# EAGLE library part 662016231822 (library Wurth_Elektronik_Electromechanic_Wire_to_Board_Connectors_rev15c)
WR-MPC3 3.00mm Male Dual Row SMT Vertical Header with SMT Fitting Nail, 16 Pins=>Code : Con_WTB_MPC3_2_PCB_SMT_662016231822 <http://katalog.we-online.de/media/thumbs2/eican/thb_Con_WTB_MPC3_2_PCB_SMT_6620xx231822_pf2.jpg> Details see: http://katalog.we-online.de/en/em/662_0xx_231_822 Created 2014-06-06, Karrer Zheng 2014 (C) Würth Elektronik
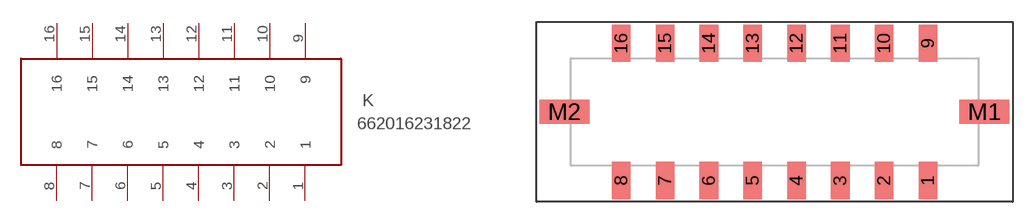
[diagram p378: symbol with the pads of 662016231822; footprint 662016231822]

Designator prefix K

## 662016231822  [662016231822]
1  1
2  2
3  3
4  4
5  5
6  6
7  7
8  8
9  9
10  10
11  11
12  12
13  13
14  14
15  15
16  16

## Footprint 662016231822 (pad centres in mm)
WR-MPC3 3.00mm Male Dual Row SMT Vertical Header with SMT Fitting Nail, 16 Pins
smd 1.27 x 2.54: 1 0,-4.7; 2 -3,-4.7; 3 -6,-4.7; 4 -9,-4.7; 5 -12,-4.7; 6 -15,-4.7; 7 -18,-4.7; 8 -21,-4.7; 9 0,4.7; 10 -3,4.7; 11 -6,4.7; 12 -9,4.7; 13 -12,4.7; 14 -15,4.7; 15 -18,4.7; 16 -21,4.7
smd 3.43 x 1.65: M1 3.865,0; M2 -24.895,0